# Altium footprint library LM5045.PcbLib: 3 footprints
Each footprint in its own frame and in the unit in brackets; x right, y up, seen from the top. Pads: shape width x height; smd on the part's side, far side on the other; paste and mask are expansions set on the pad; w line width, h text height; cw(c..) or ccw(c..) is an arc to the next point about the centre after c.
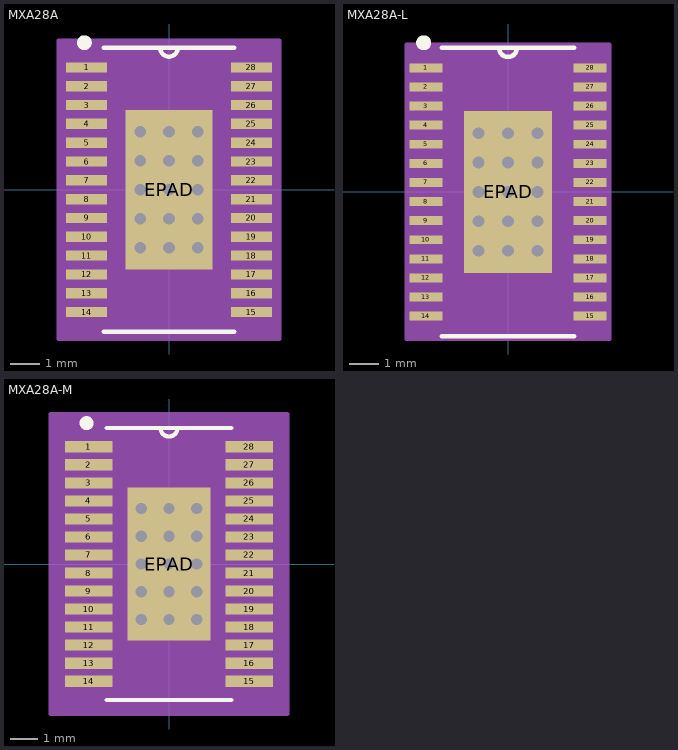
[diagram p0: the footprints below, top view; thin cyan lines are the x and y axes]

## MXA28A [mil]
pads (29):
  rect 56x14 smd: 1(-112,166.34) 2(-112,140.75) 3(-112,115.16) 4(-112,89.57) 5(-112,63.98) 6(-112,38.39) 7(-112,12.8) 8(-112,-12.8) 9(-112,-38.39) 10(-112,-63.98) 11(-112,-89.57) 12(-112,-115.16) 13(-112,-140.75) 14(-112,-166.34) 15(112,-166.34) 16(112,-140.75) 17(112,-115.16) 18(112,-89.57) 19(112,-63.98) 20(112,-38.39) 21(112,-12.8) 22(112,12.8) 23(112,38.39) 24(112,63.98) 25(112,89.57) 26(112,115.16) 27(112,140.75) 28(112,166.34)
  rect 118x217 smd paste-108: EPAD(0,0)
via -39.37,0 diameter 31.5 hole 15.75
via -39.37,39.37 diameter 31.5 hole 15.75
via -39.37,78.74 diameter 31.5 hole 15.75
via 0,78.74 diameter 31.5 hole 15.75
via 39.37,78.74 diameter 31.5 hole 15.75
via 39.37,39.37 diameter 31.5 hole 15.75
via 39.37,0 diameter 31.5 hole 15.75
via 39.37,-39.37 diameter 31.5 hole 15.75
via 39.37,-78.74 diameter 31.5 hole 15.75
via 0,-78.74 diameter 31.5 hole 15.75
via -39.37,-78.74 diameter 31.5 hole 15.75
via -39.37,-39.37 diameter 31.5 hole 15.75
via 0,-39.37 diameter 31.5 hole 15.75
via 0,0 diameter 31.5 hole 15.75
via 0,39.37 diameter 31.5 hole 15.75
Top Overlay:
  circle w10: c-115,200 r5
  lines w6: -88.5,-193 88.5,-193 ; -88.5,193 88.5,193 ; -12,193 ccw(c0,193) 12,193
Top Paste:
  region: -3.94,104.56 -55.06,104.56 -55.06,58.19 -3.94,58.19
  region: -3.94,50.31 -55.06,50.31 -55.06,3.94 -3.94,3.94
  region: -3.94,-3.94 -55.06,-3.94 -55.06,-50.31 -3.94,-50.31
  region: -3.94,-58.19 -55.06,-58.19 -55.06,-104.56 -3.94,-104.56
  region: 55.06,104.56 3.94,104.56 3.94,58.19 55.06,58.19
  region: 55.06,50.31 3.94,50.31 3.94,3.94 55.06,3.94
  region: 55.06,-3.94 3.94,-3.94 3.94,-50.31 55.06,-50.31
  region: 55.06,-58.19 3.94,-58.19 3.94,-104.56 55.06,-104.56
Mechanical 13:
  lines w0: -12,193 ccw(c0,193) 12,193
Mechanical 15:
  region: 150,-203 -150,-203 -150,203 150,203
  lines w6: -150,-203 -150,203 150,203 150,-203 -150,-203
3D body "MXA28A.stp": height 43.1, standoff 0, extent -126,-193 126,193

## MXA28A-L [mil]
pads (29):
  rect 44x12 smd: 1(-110,166.34) 2(-110,140.75) 3(-110,115.16) 4(-110,89.57) 5(-110,63.98) 6(-110,38.39) 7(-110,12.8) 8(-110,-12.8) 9(-110,-38.39) 10(-110,-63.98) 11(-110,-89.57) 12(-110,-115.16) 13(-110,-140.75) 14(-110,-166.34) 15(110,-166.34) 16(110,-140.75) 17(110,-115.16) 18(110,-89.57) 19(110,-63.98) 20(110,-38.39) 21(110,-12.8) 22(110,12.8) 23(110,38.39) 24(110,63.98) 25(110,89.57) 26(110,115.16) 27(110,140.75) 28(110,166.34)
  rect 118x217 smd paste-108: EPAD(0,0)
via 0,39.37 diameter 31.5 hole 15.75
via 0,0 diameter 31.5 hole 15.75
via 0,-39.37 diameter 31.5 hole 15.75
via -39.37,-39.37 diameter 31.5 hole 15.75
via -39.37,-78.74 diameter 31.5 hole 15.75
via 0,-78.74 diameter 31.5 hole 15.75
via 39.37,-78.74 diameter 31.5 hole 15.75
via 39.37,-39.37 diameter 31.5 hole 15.75
via 39.37,0 diameter 31.5 hole 15.75
via 39.37,39.37 diameter 31.5 hole 15.75
via 39.37,78.74 diameter 31.5 hole 15.75
via 0,78.74 diameter 31.5 hole 15.75
via -39.37,78.74 diameter 31.5 hole 15.75
via -39.37,39.37 diameter 31.5 hole 15.75
via -39.37,0 diameter 31.5 hole 15.75
Top Overlay:
  circle w10: c-113,200 r5
  lines w6: -88.5,-193 88.5,-193 ; -88.5,193 88.5,193 ; -12,193 ccw(c0,193) 12,193
Top Paste:
  region: -3.94,104.56 -55.06,104.56 -55.06,58.19 -3.94,58.19
  region: -3.94,50.31 -55.06,50.31 -55.06,3.94 -3.94,3.94
  region: -3.94,-3.94 -55.06,-3.94 -55.06,-50.31 -3.94,-50.31
  region: -3.94,-58.19 -55.06,-58.19 -55.06,-104.56 -3.94,-104.56
  region: 55.06,104.56 3.94,104.56 3.94,58.19 55.06,58.19
  region: 55.06,50.31 3.94,50.31 3.94,3.94 55.06,3.94
  region: 55.06,-3.94 3.94,-3.94 3.94,-50.31 55.06,-50.31
  region: 55.06,-58.19 3.94,-58.19 3.94,-104.56 55.06,-104.56
Mechanical 13:
  lines w0: -12,193 ccw(c0,193) 12,193
Mechanical 15:
  region: 136,-197 -136,-197 -136,197 136,197
  lines w6: -136,-197 -136,197 136,197 136,-197 -136,-197
3D body "MXA28A-L.stp": height 43.1, standoff 0, extent -126,-193 126,193

## MXA28A-M [mil]
pads (29):
  rect 68x16 smd: 1(-114,166.34) 2(-114,140.75) 3(-114,115.16) 4(-114,89.57) 5(-114,63.98) 6(-114,38.39) 7(-114,12.8) 8(-114,-12.8) 9(-114,-38.39) 10(-114,-63.98) 11(-114,-89.57) 12(-114,-115.16) 13(-114,-140.75) 14(-114,-166.34) 15(114,-166.34) 16(114,-140.75) 17(114,-115.16) 18(114,-89.57) 19(114,-63.98) 20(114,-38.39) 21(114,-12.8) 22(114,12.8) 23(114,38.39) 24(114,63.98) 25(114,89.57) 26(114,115.16) 27(114,140.75) 28(114,166.34)
  rect 118x217 smd paste-108: EPAD(0,0)
via 0,39.37 diameter 31.5 hole 15.75
via 0,0 diameter 31.5 hole 15.75
via 0,-39.37 diameter 31.5 hole 15.75
via -39.37,-39.37 diameter 31.5 hole 15.75
via -39.37,-78.74 diameter 31.5 hole 15.75
via 0,-78.74 diameter 31.5 hole 15.75
via 39.37,-78.74 diameter 31.5 hole 15.75
via 39.37,-39.37 diameter 31.5 hole 15.75
via 39.37,0 diameter 31.5 hole 15.75
via 39.37,39.37 diameter 31.5 hole 15.75
via 39.37,78.74 diameter 31.5 hole 15.75
via 0,78.74 diameter 31.5 hole 15.75
via -39.37,78.74 diameter 31.5 hole 15.75
via -39.37,39.37 diameter 31.5 hole 15.75
via -39.37,0 diameter 31.5 hole 15.75
Top Overlay:
  circle w10: c-117,200 r5
  lines w6: -88.5,-193 88.5,-193 ; -88.5,193 88.5,193 ; -12,193 ccw(c0,193) 12,193
Top Paste:
  region: -3.94,104.56 -55.06,104.56 -55.06,58.19 -3.94,58.19
  region: -3.94,50.31 -55.06,50.31 -55.06,3.94 -3.94,3.94
  region: -3.94,-3.94 -55.06,-3.94 -55.06,-50.31 -3.94,-50.31
  region: -3.94,-58.19 -55.06,-58.19 -55.06,-104.56 -3.94,-104.56
  region: 55.06,104.56 3.94,104.56 3.94,58.19 55.06,58.19
  region: 55.06,50.31 3.94,50.31 3.94,3.94 55.06,3.94
  region: 55.06,-3.94 3.94,-3.94 3.94,-50.31 55.06,-50.31
  region: 55.06,-58.19 3.94,-58.19 3.94,-104.56 55.06,-104.56
Mechanical 13:
  lines w0: -12,193 ccw(c0,193) 12,193
Mechanical 15:
  region: 168,-213 -168,-213 -168,213 168,213
  lines w6: -168,-213 -168,213 168,213 168,-213 -168,-213
3D body "MXA28A-M.stp": height 43.1, standoff 0, extent -126,-193 126,193